# EAGLE library part KSZ8081MLX (library alvie)
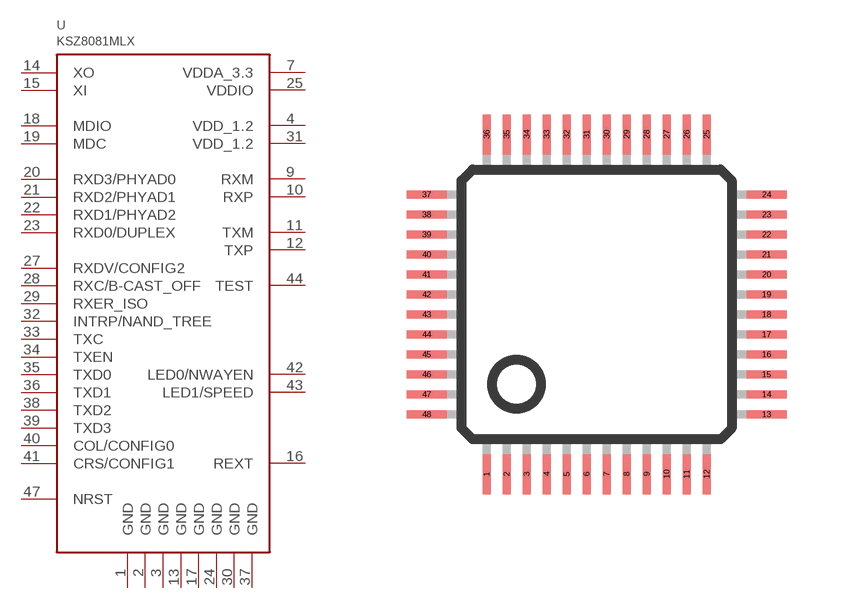
[diagram p26: symbol with the pads of LQFP48; footprint LQFP48]

Designator prefix -

## KSZ8081MLX  [LQFP48]
1  GND  pwr
2  GND  pwr
3  GND  pwr
4  VDD_1.2  sup
7  VDDA_3.3  pwr
9  RXM
10  RXP
11  TXM
12  TXP
13  GND  pwr
14  XO  out
15  XI  in
16  REXT  in
17  GND  pwr
18  MDIO
19  MDC  in
20  RXD3/PHYAD0
21  RXD2/PHYAD1
22  RXD1/PHYAD2
23  RXD0/DUPLEX
24  GND  pwr
25  VDDIO  pwr
27  RXDV/CONFIG2
28  RXC/B-CAST_OFF
29  RXER_ISO
30  GND  pwr
31  VDD_1.2  sup
32  INTRP/NAND_TREE
33  TXC
34  TXEN  in
35  TXD0  in
36  TXD1  in
37  GND  pwr
38  TXD2  in
39  TXD3  in
40  COL/CONFIG0
41  CRS/CONFIG1
42  LED0/NWAYEN
43  LED1/SPEED
44  TEST  in
47  NRST  in

## Footprint LQFP48 (pad centres in mm)
smd 0.2 x 1: 1 -2.75,-4.25; 2 -2.25,-4.25; 3 -1.75,-4.25; 4 -1.25,-4.25; 5 -0.75,-4.25; 6 -0.25,-4.25; 7 0.25,-4.25; 8 0.75,-4.25; 9 1.25,-4.25; 10 1.75,-4.25; 11 2.25,-4.25; 12 2.75,-4.25; 25 2.75,4.25; 26 2.25,4.25; 27 1.75,4.25; 28 1.25,4.25; 29 0.75,4.25; 30 0.25,4.25; 31 -0.25,4.25; 32 -0.75,4.25; 33 -1.25,4.25; 34 -1.75,4.25; 35 -2.25,4.25; 36 -2.75,4.25
smd 1 x 0.2: 13 4.25,-2.75; 14 4.25,-2.25; 15 4.25,-1.75; 16 4.25,-1.25; 17 4.25,-0.75; 18 4.25,-0.25; 19 4.25,0.25; 20 4.25,0.75; 21 4.25,1.25; 22 4.25,1.75; 23 4.25,2.25; 24 4.25,2.75; 37 -4.25,2.75; 38 -4.25,2.25; 39 -4.25,1.75; 40 -4.25,1.25; 41 -4.25,0.75; 42 -4.25,0.25; 43 -4.25,-0.25; 44 -4.25,-0.75; 45 -4.25,-1.25; 46 -4.25,-1.75; 47 -4.25,-2.25; 48 -4.25,-2.75